# Altium footprint library 2171750001.PcbLib: 1 footprints
Each footprint in its own frame and in the unit in brackets; x right, y up, seen from the top. Pads: shape width x height; smd on the part's side, far side on the other; paste and mask are expansions set on the pad; w line width, h text height; cw(c..) or ccw(c..) is an arc to the next point about the centre after c.
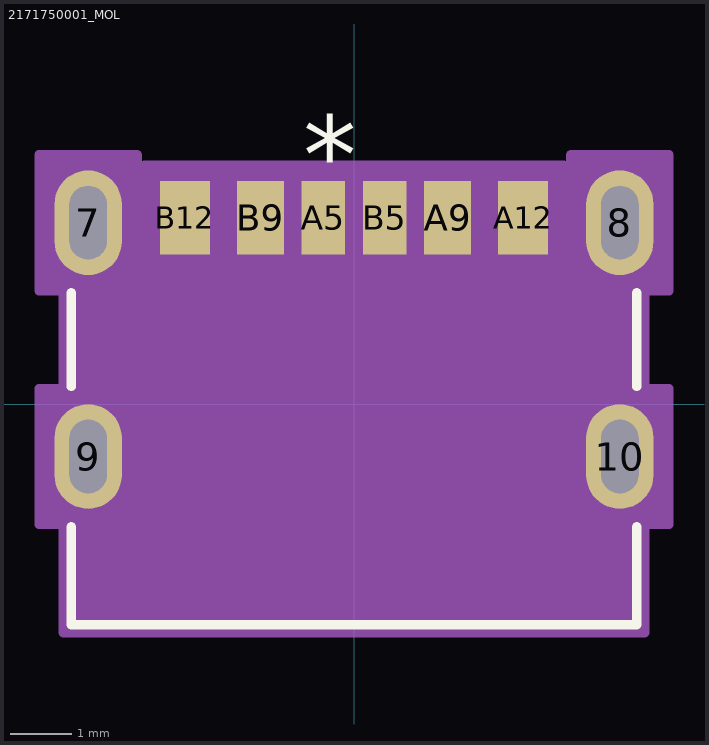
[diagram p0: the footprint, top view; thin cyan lines are the x and y axes]

## 2171750001_MOL [mil]
pads (10):
  oval 43x67 / inner oval 43x67 / far side round 60 hole 47 slot 24 at 0 deg paste-99999 mask-33.5: 7(-170.08,116.31) 8(170.08,116.31) 9(-170.08,-33.29) 10(170.08,-33.29)
  rect 28x47 smd paste+0 mask+0: A5(-19.68,119.46) B5(19.68,119.46)
  rect 30x47 smd paste+0 mask+0: A9(59.84,119.46) B9(-59.84,119.46)
  rect 32x47 smd paste+0 mask+0: A12(108.27,119.46) B12(-108.27,119.46)
Top Overlay:
  lines w6: -181,-78.12 -181,-141 181,-141 181,-78.12 ; -181,11.54 -181,71.48 ; 181,11.54 181,71.48
  text "*" at -32.5,135 h50
Mechanical 13:
  lines w1: -176,-136 176,-136 176,136 -176,136 -176,-136
  text "*" at -32.5,65 h50
Mechanical 15:
  region: 134.27,146 134.27,152.96 -34.84,152.96 -134.27,152.96 -134.27,146 -138.58,146 -138.58,159.81 -201.58,159.81 -201.58,72.81 -186,72.81 -186,10.21 -201.58,10.21 -201.58,-76.79 -186,-76.79 -186,-146 186,-146 186,-76.79 201.58,-76.79 201.58,10.21 186,10.21 186,72.81 201.58,72.81 201.58,159.81 138.58,159.81 138.58,146
  lines w6: -34.84,152.96 134.27,152.96 134.27,146 138.58,146 138.58,159.81 201.58,159.81 201.58,72.81 186,72.81 186,10.21 201.58,10.21 201.58,-76.79 186,-76.79 186,-146 -186,-146 -186,-76.79 -201.58,-76.79 -201.58,10.21 -186,10.21 -186,72.81 -201.58,72.81 -201.58,159.81 -138.58,159.81 -138.58,146 -134.27,146 -134.27,152.96 -34.84,152.96 ; -34.84,152.96 -34.84,152.96
3D body "2171750001.stp": height 124.91, standoff -78.24, extent -175.98,-138.98 175.98,132.68